# Altium footprint library smd schottky diode.PcbLib: 1 footprints
Each footprint in its own frame and in the unit in brackets; x right, y up, seen from the top. Pads: shape width x height; smd on the part's side, far side on the other; paste and mask are expansions set on the pad; w line width, h text height; cw(c..) or ccw(c..) is an arc to the next point about the centre after c.
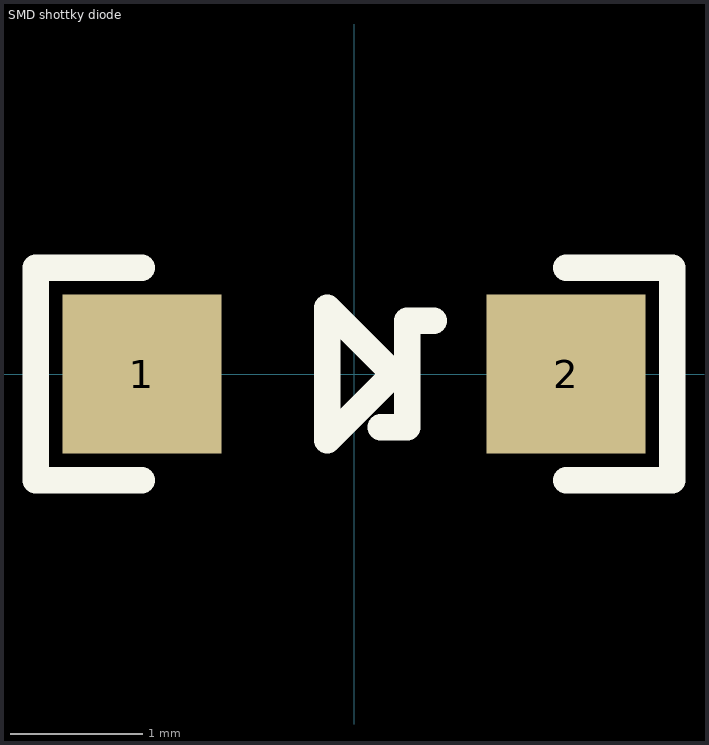
[diagram p0: the footprint, top view; thin cyan lines are the x and y axes]

## SMD shottky diode [mm]
pads (2):
  rect 1.2x1.2 smd: 1(-1.6,0) 2(1.6,0)
Top Overlay:
  lines w0.2: -1.6,-0.8 -2.4,-0.8 -2.4,0.8 -1.6,0.8 ; 0.2,-0.4 0.4,-0.4 0.4,0.4 0.6,0.4 ; 1.6,-0.8 2.4,-0.8 2.4,0.8 1.6,0.8 ; -0.2,-0.5 0.3,0 -0.2,0.5 -0.2,-0.5